# EAGLE library part 502352-0800 (library BMS-Aaron (v6))
Molex DuraClik 502352-0800 http://www.molex.com/pdm_docs/sd/5023520800_sd.pdf
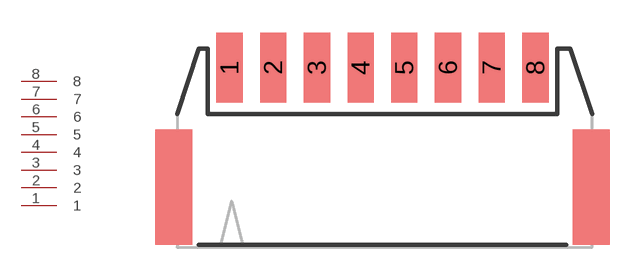
[diagram p2: symbol with the pads of 502352-0800; footprint 502352-0800]

Designator prefix -

## 502352-0800  [502352-0800]
1  1
2  2
3  3
4  4
5  5
6  6
7  7
8  8

## Footprint 502352-0800 (pad centres in mm)
smd 1.2 x 3.2: 1 3.4,8.13; 2 5.4,8.13; 3 7.4,8.13; 4 9.4,8.13; 5 11.4,8.13; 6 13.4,8.13; 7 15.4,8.13; 8 17.4,8.13